# Altium integrated library TI_Logic_Little_Logic.IntLib: 1164 symbols (part 31 of 35)
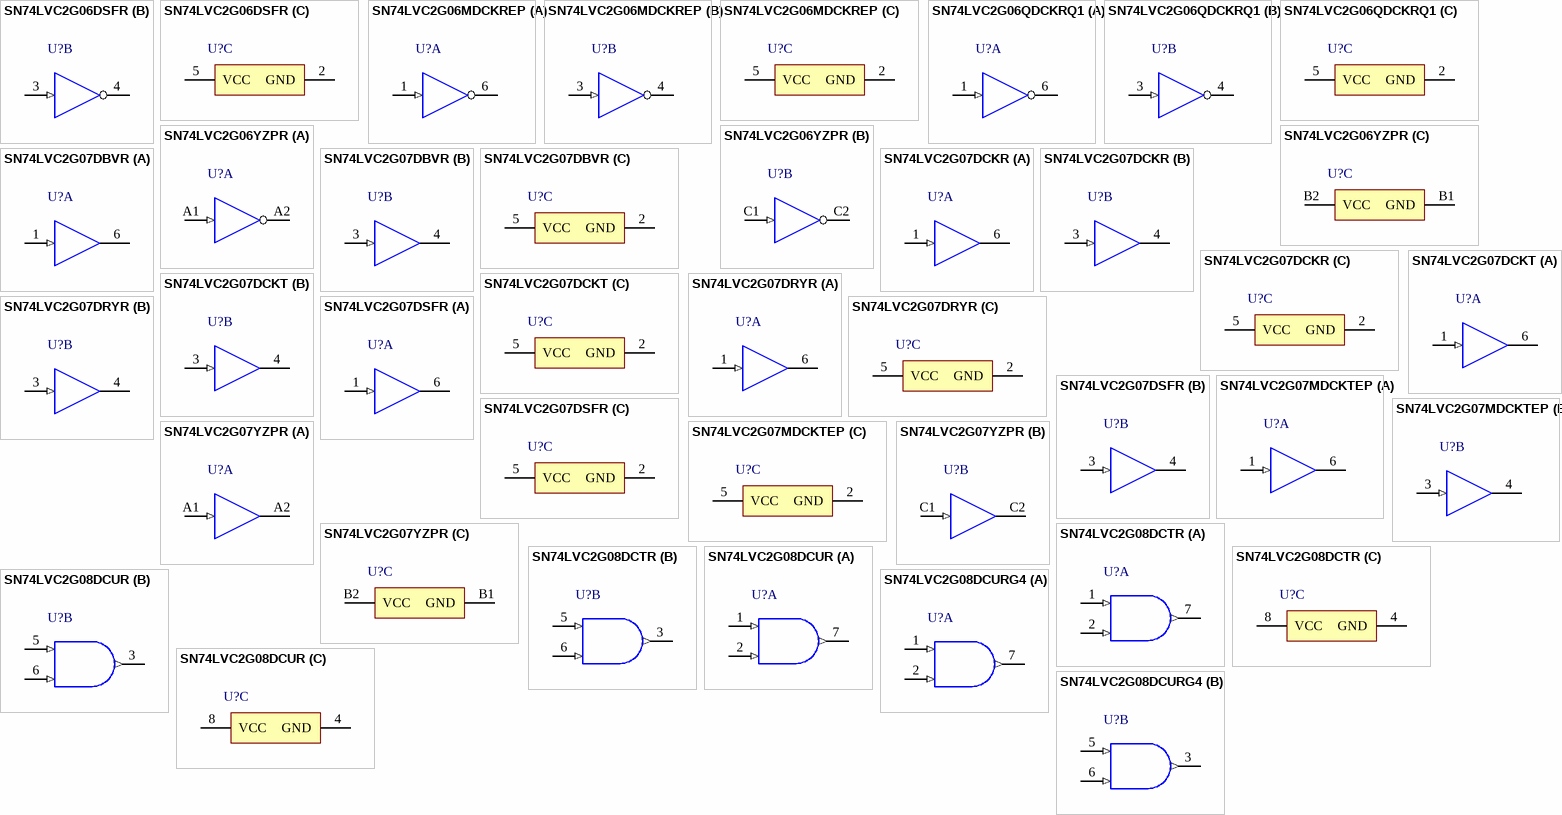
[diagram p90: symbols SN74LVC2G06DSFR to SN74LVC2G08DCURG4]

## SN74LVC2G07DCKR
designator U?
Dual Buffer/Driver with Open-Drain Output, DCK0006A, LARGE T&R; Generic Part Number: SN74LVC2G07; Manufacturer: Texas Instruments; PartNumber: SN74LVC2G07DCKR; VCC(Min)(V): 1.65; VCC(Max)(V): 5.5; Output Type: CMOS; ICC @ Nom Voltage(Max)(mA): 0.01; Input Type: CMOS/TTL; Bits(#): 2; F @ Nom Voltage(Max)(Mhz): 150; Rating: Catalog; Technology Family: LVC; Voltage(Nom)(V): 1.8,2.5,3.3,5; Schmitt Trigger: No; Output Drive (IOL/IOH)(Max)(mA): 32/-32; tpd @ Nom Voltage(Max)(ns): 8.6,4.4,3.7,2.9; Logic: True; Sub-Family: Inverting Buffer/Driver; DatasheetVersion: SCES308K; PackageReference: DCK0006A; Supplier 1: Mouser; Supplier Part Number 1: 595-SN74LVC2G07DCKR; Supplier 2: Digi-Key; Supplier Part Number 2: 296-13495-2-ND; Supplier 3: Digi-Key; Supplier Part Number 3: 296-13495-1-ND; Supplier 4: Digi-Key; Supplier Part Number 4: 296-13495-6-ND; Operating Temperature Range(C): -40 to 125; 3-State Output: No; ComponentLink1Description: Manufacturer URL; ComponentLink1URL: http://www.ti.com/; ComponentLink2Description: Datasheet; ComponentLink2URL: http://www.ti.com/lit/ds/symlink/sn74lvc2g07.pdf
footprint DCK0006A_N (SOT23, 6-Leads, Body 2.15x1.4mm, Pitch 0.65mm, IPC Medium Density)
footprint DCK0006A_M (SOT23, 6-Leads, Body 2.15x1.4mm, Pitch 0.65mm, IPC Low Density)
footprint DCK0006A_L (SOT23, 6-Leads, Body 2.15x1.4mm, Pitch 0.65mm, IPC High Density)
part A pins: 1 1A (in) "Input 1", 6 1Y (oc) "Open-drain output 1"
part B pins: 3 2A (in) "Input 2", 4 2Y (oc) "Open-drain output 2"
part C pins: 2 GND (power) "Ground", 5 VCC (power) "Power pin"

## SN74LVC2G07DCKT
designator U?
Dual Buffer/Driver with Open-Drain Output, DCK0006A, SMALL T&R; Generic Part Number: SN74LVC2G07; Manufacturer: Texas Instruments; PartNumber: SN74LVC2G07DCKT; VCC(Min)(V): 1.65; VCC(Max)(V): 5.5; Output Type: CMOS; ICC @ Nom Voltage(Max)(mA): 0.01; Input Type: CMOS/TTL; Bits(#): 2; F @ Nom Voltage(Max)(Mhz): 150; Rating: Catalog; Technology Family: LVC; Voltage(Nom)(V): 1.8,2.5,3.3,5; Schmitt Trigger: No; Output Drive (IOL/IOH)(Max)(mA): 32/-32; tpd @ Nom Voltage(Max)(ns): 8.6,4.4,3.7,2.9; Logic: True; Sub-Family: Inverting Buffer/Driver; DatasheetVersion: SCES308K; PackageReference: DCK0006A; Supplier 1: Mouser; Supplier Part Number 1: 595-SN74LVC2G07DCKT; Supplier 2: Digi-Key; Supplier Part Number 2: 296-26614-2-ND; Supplier 3: Digi-Key; Supplier Part Number 3: 296-26614-1-ND; Supplier 4: Digi-Key; Supplier Part Number 4: 296-26614-6-ND; Operating Temperature Range(C): -40 to 125; 3-State Output: No; ComponentLink1Description: Manufacturer URL; ComponentLink1URL: http://www.ti.com/; ComponentLink2Description: Datasheet; ComponentLink2URL: http://www.ti.com/lit/ds/symlink/sn74lvc2g07.pdf
footprint DCK0006A_N (SOT23, 6-Leads, Body 2.15x1.4mm, Pitch 0.65mm, IPC Medium Density)
footprint DCK0006A_M (SOT23, 6-Leads, Body 2.15x1.4mm, Pitch 0.65mm, IPC Low Density)
footprint DCK0006A_L (SOT23, 6-Leads, Body 2.15x1.4mm, Pitch 0.65mm, IPC High Density)
part A pins: 1 1A (in) "Input 1", 6 1Y (oc) "Open-drain output 1"
part B pins: 3 2A (in) "Input 2", 4 2Y (oc) "Open-drain output 2"
part C pins: 2 GND (power) "Ground", 5 VCC (power) "Power pin"

## SN74LVC2G07DRYR
designator U?
Dual Buffer/Driver with Open-Drain Output, DRY0006A, LARGE T&R; Generic Part Number: SN74LVC2G07; Manufacturer: Texas Instruments; PartNumber: SN74LVC2G07DRYR; VCC(Min)(V): 1.65; VCC(Max)(V): 5.5; Output Type: CMOS; ICC @ Nom Voltage(Max)(mA): 0.01; Input Type: CMOS/TTL; Bits(#): 2; F @ Nom Voltage(Max)(Mhz): 150; Rating: Catalog; Technology Family: LVC; Voltage(Nom)(V): 1.8,2.5,3.3,5; Schmitt Trigger: No; Output Drive (IOL/IOH)(Max)(mA): 32/-32; tpd @ Nom Voltage(Max)(ns): 8.6,4.4,3.7,2.9; Logic: True; Sub-Family: Inverting Buffer/Driver; DatasheetVersion: SCES308K; PackageReference: DRY0006A; Supplier 1: Mouser; Supplier Part Number 1: 595-SN74LVC2G07DRYR; Supplier 2: Digi-Key; Supplier Part Number 2: 296-30604-2-ND; Supplier 3: Digi-Key; Supplier Part Number 3: 296-30604-1-ND; Supplier 4: Digi-Key; Supplier Part Number 4: 296-30604-6-ND; Operating Temperature Range(C): -40 to 125; 3-State Output: No; ComponentLink1Description: Manufacturer URL; ComponentLink1URL: http://www.ti.com/; ComponentLink2Description: Datasheet; ComponentLink2URL: http://www.ti.com/lit/ds/symlink/sn74lvc2g07.pdf
footprint DRY0006A_V (SON, 6-Leads, Body 1.45x1mm, Pitch 0.5mm)
part A pins: 1 1A (in) "Input 1", 6 1Y (oc) "Open-drain output 1"
part B pins: 3 2A (in) "Input 2", 4 2Y (oc) "Open-drain output 2"
part C pins: 2 GND (power) "Ground", 5 VCC (power) "Power pin"

## SN74LVC2G07DSFR
designator U?
Dual Buffer/Driver with Open-Drain Output, DSF0006A, LARGE T&R; Generic Part Number: SN74LVC2G07; Manufacturer: Texas Instruments; PartNumber: SN74LVC2G07DSFR; VCC(Min)(V): 1.65; VCC(Max)(V): 5.5; Output Type: CMOS; ICC @ Nom Voltage(Max)(mA): 0.01; Input Type: CMOS/TTL; Bits(#): 2; F @ Nom Voltage(Max)(Mhz): 150; Rating: Catalog; Technology Family: LVC; Voltage(Nom)(V): 1.8,2.5,3.3,5; Schmitt Trigger: No; Output Drive (IOL/IOH)(Max)(mA): 32/-32; tpd @ Nom Voltage(Max)(ns): 8.6,4.4,3.7,2.9; Logic: True; Sub-Family: Inverting Buffer/Driver; DatasheetVersion: SCES308K; PackageReference: DSF0006A; Supplier 1: Mouser; Supplier Part Number 1: 595-SN74LVC2G07DSFR; Supplier 2: Digi-Key; Supplier Part Number 2: 296-30605-2-ND; Supplier 3: Digi-Key; Supplier Part Number 3: 296-30605-1-ND; Supplier 4: Digi-Key; Supplier Part Number 4: 296-30605-6-ND; Operating Temperature Range(C): -40 to 125; 3-State Output: No; ComponentLink1Description: Manufacturer URL; ComponentLink1URL: http://www.ti.com/; ComponentLink2Description: Datasheet; ComponentLink2URL: http://www.ti.com/lit/ds/symlink/sn74lvc2g07.pdf
footprint DSF0006A_V (SON, 6-Leads, Body 1x1mm, Pitch 0.35mm, TI Recommend)
part A pins: 1 1A (in) "Input 1", 6 1Y (oc) "Open-drain output 1"
part B pins: 3 2A (in) "Input 2", 4 2Y (oc) "Open-drain output 2"
part C pins: 2 GND (power) "Ground", 5 VCC (power) "Power pin"

## SN74LVC2G07MDCKTEP
designator U?
Enhanced Product Dual Buffer/Driver with Open-Drain Output, DCK0006A, SMALL T&R; Generic Part Number: SN74LVC2G07-EP; Manufacturer: Texas Instruments; PartNumber: SN74LVC2G07MDCKTEP; VCC(Min)(V): 1.65; VCC(Max)(V): 5.5; Output Type: CMOS; ICC @ Nom Voltage(Max)(mA): 0.01; Input Type: CMOS/TTL; Bits(#): 2; F @ Nom Voltage(Max)(Mhz): 150; Rating: HiRel Enhanced Product; Technology Family: LVC; Voltage(Nom)(V): 1.8,2.5,3.3,5; Schmitt Trigger: No; Output Drive (IOL/IOH)(Max)(mA): 32/-32; tpd @ Nom Voltage(Max)(ns): 5.7,4.9; Logic: True; Sub-Family: Inverting Buffer/Driver; DatasheetVersion: SCES719; PackageReference: DCK0006A; Supplier 1: Mouser; Supplier Part Number 1: 595-74LVC2G07MDCKTEP; Supplier 2: Digi-Key; Supplier Part Number 2: 296-23739-2-ND; Supplier 3: Digi-Key; Supplier Part Number 3: 296-23739-1-ND; Supplier 4: Digi-Key; Supplier Part Number 4: 296-23739-6-ND; Operating Temperature Range(C): -55 to 125; 3-State Output: No; ComponentLink1Description: Manufacturer URL; ComponentLink1URL: http://www.ti.com/; ComponentLink2Description: Datasheet; ComponentLink2URL: http://www.ti.com/lit/ds/symlink/sn74lvc2g07-ep.pdf
footprint DCK0006A_N (SOT23, 6-Leads, Body 2.15x1.4mm, Pitch 0.65mm, IPC Medium Density)
footprint DCK0006A_M (SOT23, 6-Leads, Body 2.15x1.4mm, Pitch 0.65mm, IPC Low Density)
footprint DCK0006A_L (SOT23, 6-Leads, Body 2.15x1.4mm, Pitch 0.65mm, IPC High Density)
part A pins: 1 1A (in) "Input 1", 6 1Y (oc) "Open-drain output 1"
part B pins: 3 2A (in) "Input 2", 4 2Y (oc) "Open-drain output 2"
part C pins: 2 GND (power) "Ground", 5 VCC (power) "Power pin"

## SN74LVC2G07YZPR
designator U?
Dual Buffer/Driver with Open-Drain Output, YZP0006ADAD, LARGE T&R; Generic Part Number: SN74LVC2G07; Manufacturer: Texas Instruments; PartNumber: SN74LVC2G07YZPR; VCC(Min)(V): 1.65; VCC(Max)(V): 5.5; Output Type: CMOS; ICC @ Nom Voltage(Max)(mA): 0.01; Input Type: CMOS/TTL; Bits(#): 2; F @ Nom Voltage(Max)(Mhz): 150; Rating: Catalog; Technology Family: LVC; Voltage(Nom)(V): 1.8,2.5,3.3,5; Schmitt Trigger: No; Output Drive (IOL/IOH)(Max)(mA): 32/-32; tpd @ Nom Voltage(Max)(ns): 8.6,4.4,3.7,2.9; Logic: True; Sub-Family: Inverting Buffer/Driver; DatasheetVersion: SCES308K; PackageReference: YZP0006ADAD; Supplier 1: Mouser; Supplier Part Number 1: 595-SN74LVC2G07YZPR; Supplier 2: Digi-Key; Supplier Part Number 2: 296-23277-2-ND; Supplier 3: Digi-Key; Supplier Part Number 3: 296-23277-1-ND; Supplier 4: Digi-Key; Supplier Part Number 4: 296-23277-6-ND; Operating Temperature Range(C): -40 to 125; 3-State Output: No; ComponentLink1Description: Manufacturer URL; ComponentLink1URL: http://www.ti.com/; ComponentLink2Description: Datasheet; ComponentLink2URL: http://www.ti.com/lit/ds/symlink/sn74lvc2g07.pdf
footprint YZP0006ADAD (BGA, 6-Balls, Body 1.39x0.89mm, Pitch 0.5mm)
part A pins: A1 1A (in), A2 1Y (oc)
part B pins: C1 2A (in), C2 2Y (oc)
part C pins: B1 GND (power), B2 VCC (power)

## SN74LVC2G08DCTR
designator U?
Dual 2-Input Positive-AND Gate, DCT0008A, LARGE T&R; Generic Part Number: SN74LVC2G08; Manufacturer: Texas Instruments; PartNumber: SN74LVC2G08DCTR; VCC(Min)(V): 1.65; VCC(Max)(V): 5.5; Output Type: CMOS; ICC @ Nom Voltage(Max)(mA): 0.01; Input Type: CMOS/TTL; Bits(#): 2; F @ Nom Voltage(Max)(Mhz): 150; Rating: Catalog; Technology Family: LVC; Voltage(Nom)(V): 1.8,2.5,3.3,5; Schmitt Trigger: No; Output Drive (IOL/IOH)(Max)(mA): 32/-32; tpd @ Nom Voltage(Max)(ns): 9.8,5.8,5.3,4.8; Logic: True; Gate Type: AND; DatasheetVersion: SCES198M; PackageReference: DCT0008A; Supplier 1: Mouser; Supplier Part Number 1: 595-SN74LVC2G08DCTR; Supplier 2: Digi-Key; Supplier Part Number 2: 296-13263-2-ND; Supplier 3: Digi-Key; Supplier Part Number 3: 296-13263-1-ND; Supplier 4: Digi-Key; Supplier Part Number 4: 296-13263-6-ND; Operating Temperature Range(C): -40 to 125,-40 to 85; Sub-Family: AND Gate; 3-State Output: No; ComponentLink1Description: Manufacturer URL; ComponentLink1URL: http://www.ti.com/; ComponentLink2Description: Datasheet; ComponentLink2URL: http://www.ti.com/lit/ds/symlink/sn74lvc2g08.pdf
footprint DCT0008A_N (SOP, 8-Leads, Body 2.9x3.2mm, Pitch 0.65mm, IPC Medium Density)
footprint DCT0008A_M (SOP, 8-Leads, Body 2.9x3.2mm, Pitch 0.65mm, IPC Low Density)
footprint DCT0008A_L (SOP, 8-Leads, Body 2.9x3.2mm, Pitch 0.65mm, IPC High Density)
part A pins: 1 1A (in), 2 1B (in), 7 1Y (out)
part B pins: 3 2Y (out), 5 2A (in), 6 2B (in)
part C pins: 4 GND (power), 8 VCC (power)

## SN74LVC2G08DCUR
designator U?
Dual 2-Input Positive-AND Gate, DCU0008A, LARGE T&R; Generic Part Number: SN74LVC2G08; Manufacturer: Texas Instruments; PartNumber: SN74LVC2G08DCUR; VCC(Min)(V): 1.65; VCC(Max)(V): 5.5; Output Type: CMOS; ICC @ Nom Voltage(Max)(mA): 0.01; Input Type: CMOS/TTL; Bits(#): 2; F @ Nom Voltage(Max)(Mhz): 150; Rating: Catalog; Technology Family: LVC; Voltage(Nom)(V): 1.8,2.5,3.3,5; Schmitt Trigger: No; Output Drive (IOL/IOH)(Max)(mA): 32/-32; tpd @ Nom Voltage(Max)(ns): 9.8,5.8,5.3,4.8; Logic: True; Gate Type: AND; DatasheetVersion: SCES198M; PackageReference: DCU0008A; Supplier 1: Mouser; Supplier Part Number 1: 595-SN74LVC2G08DCUR; Supplier 2: Digi-Key; Supplier Part Number 2: 296-13264-2-ND; Supplier 3: Digi-Key; Supplier Part Number 3: 296-13264-1-ND; Supplier 4: Digi-Key; Supplier Part Number 4: 296-13264-6-ND; Operating Temperature Range(C): -40 to 125,-40 to 85; Sub-Family: AND Gate; 3-State Output: No; ComponentLink1Description: Manufacturer URL; ComponentLink1URL: http://www.ti.com/; ComponentLink2Description: Datasheet; ComponentLink2URL: http://www.ti.com/lit/ds/symlink/sn74lvc2g08.pdf
footprint DCU0008A_N (SOP, 8-Leads, Body 2.4x2.1mm, Pitch 0.5mm, IPC Medium Density)
footprint DCU0008A_M (SOP, 8-Leads, Body 2.4x2.1mm, Pitch 0.5mm, IPC Low Density)
footprint DCU0008A_L (SOP, 8-Leads, Body 2.4x2.1mm, Pitch 0.5mm, IPC High Density)
part A pins: 1 1A (in), 2 1B (in), 7 1Y (out)
part B pins: 3 2Y (out), 5 2A (in), 6 2B (in)
part C pins: 4 GND (power), 8 VCC (power)

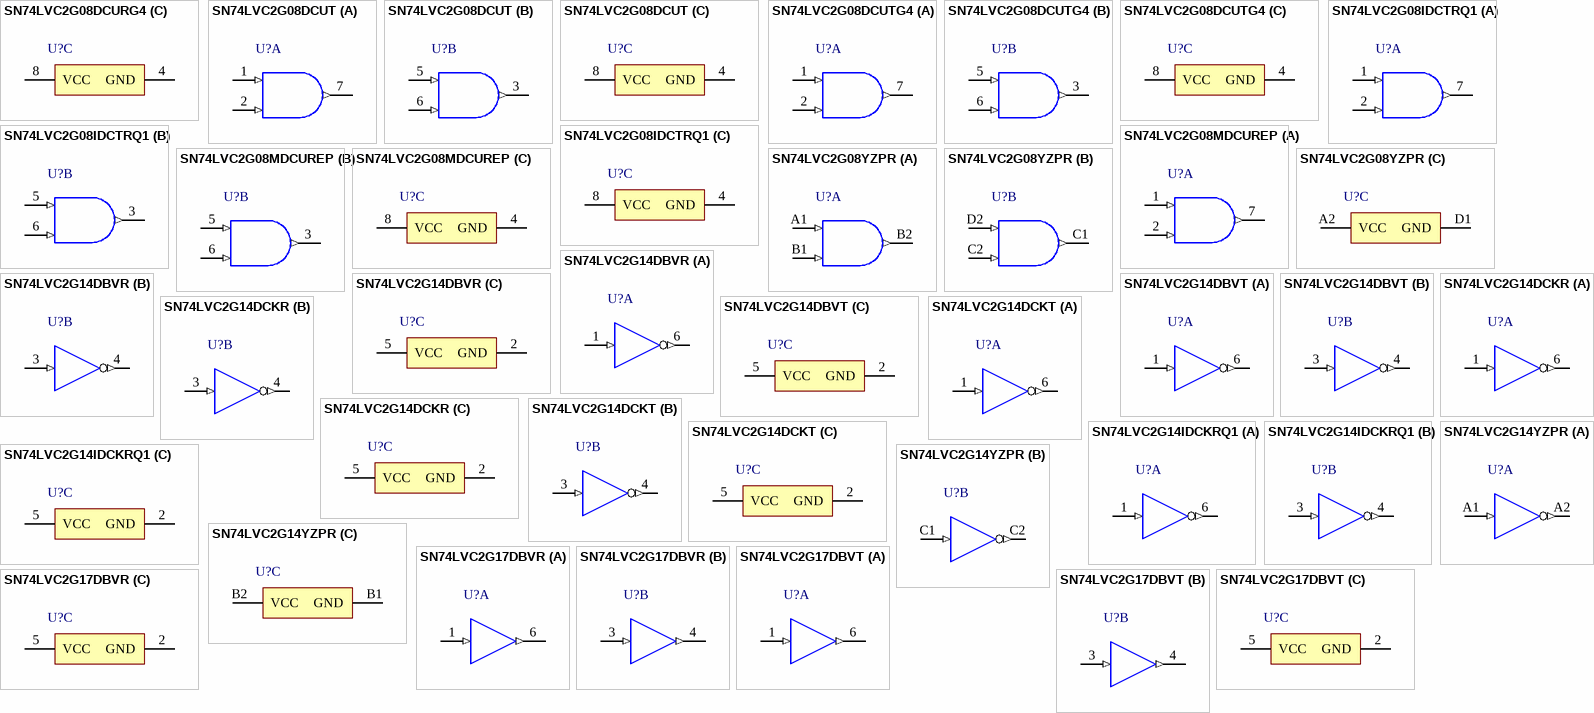
[diagram p50: symbols SN74LVC2G08DCURG4 to SN74LVC2G17DBVT]

## SN74LVC2G08DCURG4
designator U?
Dual 2-Input Positive-AND Gate, DCU0008A, LARGE T&R; Generic Part Number: SN74LVC2G08; Manufacturer: Texas Instruments; PartNumber: SN74LVC2G08DCURG4; VCC(Min)(V): 1.65; VCC(Max)(V): 5.5; Output Type: CMOS; ICC @ Nom Voltage(Max)(mA): 0.01; Input Type: CMOS/TTL; Bits(#): 2; F @ Nom Voltage(Max)(Mhz): 150; Rating: Catalog; Technology Family: LVC; Voltage(Nom)(V): 1.8,2.5,3.3,5; Schmitt Trigger: No; Output Drive (IOL/IOH)(Max)(mA): 32/-32; tpd @ Nom Voltage(Max)(ns): 9.8,5.8,5.3,4.8; Logic: True; Gate Type: AND; DatasheetVersion: SCES198M; PackageReference: DCU0008A; Supplier 1: Mouser; Supplier Part Number 1: 595-SN74LVC2G08DCUG4; Supplier 2: Digi-Key; Supplier Part Number 2: 296-32320-2-ND; Supplier 3: Digi-Key; Supplier Part Number 3: 296-32320-1-ND; Supplier 4: Digi-Key; Supplier Part Number 4: 296-32320-6-ND; Operating Temperature Range(C): -40 to 125,-40 to 85; Sub-Family: AND Gate; 3-State Output: No; ComponentLink1Description: Manufacturer URL; ComponentLink1URL: http://www.ti.com/; ComponentLink2Description: Datasheet; ComponentLink2URL: http://www.ti.com/lit/ds/symlink/sn74lvc2g08.pdf
footprint DCU0008A_N (SOP, 8-Leads, Body 2.4x2.1mm, Pitch 0.5mm, IPC Medium Density)
footprint DCU0008A_M (SOP, 8-Leads, Body 2.4x2.1mm, Pitch 0.5mm, IPC Low Density)
footprint DCU0008A_L (SOP, 8-Leads, Body 2.4x2.1mm, Pitch 0.5mm, IPC High Density)
part A pins: 1 1A (in), 2 1B (in), 7 1Y (out)
part B pins: 3 2Y (out), 5 2A (in), 6 2B (in)
part C pins: 4 GND (power), 8 VCC (power)

## SN74LVC2G08DCUT
designator U?
Dual 2-Input Positive-AND Gate, DCU0008A, SMALL T&R; Generic Part Number: SN74LVC2G08; Manufacturer: Texas Instruments; PartNumber: SN74LVC2G08DCUT; VCC(Min)(V): 1.65; VCC(Max)(V): 5.5; Output Type: CMOS; ICC @ Nom Voltage(Max)(mA): 0.01; Input Type: CMOS/TTL; Bits(#): 2; F @ Nom Voltage(Max)(Mhz): 150; Rating: Catalog; Technology Family: LVC; Voltage(Nom)(V): 1.8,2.5,3.3,5; Schmitt Trigger: No; Output Drive (IOL/IOH)(Max)(mA): 32/-32; tpd @ Nom Voltage(Max)(ns): 9.8,5.8,5.3,4.8; Logic: True; Gate Type: AND; DatasheetVersion: SCES198M; PackageReference: DCU0008A; Supplier 1: Mouser; Supplier Part Number 1: 595-SN74LVC2G08DCUT; Supplier 2: Digi-Key; Supplier Part Number 2: 296-26615-2-ND; Supplier 3: Digi-Key; Supplier Part Number 3: 296-26615-1-ND; Supplier 4: Digi-Key; Supplier Part Number 4: 296-26615-6-ND; Operating Temperature Range(C): -40 to 125,-40 to 85; Sub-Family: AND Gate; 3-State Output: No; ComponentLink1Description: Manufacturer URL; ComponentLink1URL: http://www.ti.com/; ComponentLink2Description: Datasheet; ComponentLink2URL: http://www.ti.com/lit/ds/symlink/sn74lvc2g08.pdf
footprint DCU0008A_N (SOP, 8-Leads, Body 2.4x2.1mm, Pitch 0.5mm, IPC Medium Density)
footprint DCU0008A_M (SOP, 8-Leads, Body 2.4x2.1mm, Pitch 0.5mm, IPC Low Density)
footprint DCU0008A_L (SOP, 8-Leads, Body 2.4x2.1mm, Pitch 0.5mm, IPC High Density)
part A pins: 1 1A (in), 2 1B (in), 7 1Y (out)
part B pins: 3 2Y (out), 5 2A (in), 6 2B (in)
part C pins: 4 GND (power), 8 VCC (power)

## SN74LVC2G08DCUTG4
designator U?
Dual 2-Input Positive-AND Gate, DCU0008A, SMALL T&R; Generic Part Number: SN74LVC2G08; Manufacturer: Texas Instruments; PartNumber: SN74LVC2G08DCUTG4; VCC(Min)(V): 1.65; VCC(Max)(V): 5.5; Output Type: CMOS; ICC @ Nom Voltage(Max)(mA): 0.01; Input Type: CMOS/TTL; Bits(#): 2; F @ Nom Voltage(Max)(Mhz): 150; Rating: Catalog; Technology Family: LVC; Voltage(Nom)(V): 1.8,2.5,3.3,5; Schmitt Trigger: No; Output Drive (IOL/IOH)(Max)(mA): 32/-32; tpd @ Nom Voltage(Max)(ns): 9.8,5.8,5.3,4.8; Logic: True; Gate Type: AND; DatasheetVersion: SCES198M; PackageReference: DCU0008A; Supplier 1: Mouser; Supplier Part Number 1: 595-74LVC2G08DCUTG4; Supplier 2: Digi-Key; Supplier Part Number 2: SN74LVC2G08DCUTG4-ND; Operating Temperature Range(C): -40 to 125,-40 to 85; Sub-Family: AND Gate; 3-State Output: No; ComponentLink1Description: Manufacturer URL; ComponentLink1URL: http://www.ti.com/; ComponentLink2Description: Datasheet; ComponentLink2URL: http://www.ti.com/lit/ds/symlink/sn74lvc2g08.pdf
footprint DCU0008A_N (SOP, 8-Leads, Body 2.4x2.1mm, Pitch 0.5mm, IPC Medium Density)
footprint DCU0008A_M (SOP, 8-Leads, Body 2.4x2.1mm, Pitch 0.5mm, IPC Low Density)
footprint DCU0008A_L (SOP, 8-Leads, Body 2.4x2.1mm, Pitch 0.5mm, IPC High Density)
part A pins: 1 1A (in), 2 1B (in), 7 1Y (out)
part B pins: 3 2Y (out), 5 2A (in), 6 2B (in)
part C pins: 4 GND (power), 8 VCC (power)

## SN74LVC2G08IDCTRQ1
designator U?
Automotive Catalog Dual 2-Input Positive-AND Gate, DCT0008A, LARGE T&R; Generic Part Number: SN74LVC2G08-Q1; Manufacturer: Texas Instruments; PartNumber: SN74LVC2G08IDCTRQ1; VCC(Min)(V): 1.65; VCC(Max)(V): 5.5; Output Type: CMOS; ICC @ Nom Voltage(Max)(mA): 0.01; Input Type: CMOS/TTL; Bits(#): 2; F @ Nom Voltage(Max)(Mhz): 150; Technology Family: LVC; Voltage(Nom)(V): 1.8,2.5,3.3,5; Schmitt Trigger: No; Output Drive (IOL/IOH)(Max)(mA): 32/-32; tpd @ Nom Voltage(Max)(ns): 9,5.1,4.7,3.8; Logic: True; DatasheetVersion: SCES557D; PackageReference: DCT0008A; Supplier 1: Mouser; Supplier Part Number 1: 595-SN74LVC2G08IDCQ1; Supplier 2: Digi-Key; Supplier Part Number 2: 296-36980-2-ND; Supplier 3: Digi-Key; Supplier Part Number 3: 296-36980-1-ND; Supplier 4: Digi-Key; Supplier Part Number 4: 296-36980-6-ND; Operating Temperature Range(C): -40 to 85; Rating: Automotive; Sub-Family: AND Gate; 3-State Output: No; ComponentLink1Description: Manufacturer URL; ComponentLink1URL: http://www.ti.com/; ComponentLink2Description: Datasheet; ComponentLink2URL: http://www.ti.com/lit/ds/symlink/sn74lvc2g08-q1.pdf
footprint DCT0008A_N (SOP, 8-Leads, Body 2.9x3.2mm, Pitch 0.65mm, IPC Medium Density)
footprint DCT0008A_M (SOP, 8-Leads, Body 2.9x3.2mm, Pitch 0.65mm, IPC Low Density)
footprint DCT0008A_L (SOP, 8-Leads, Body 2.9x3.2mm, Pitch 0.65mm, IPC High Density)
part A pins: 1 1A (in), 2 1B (in), 7 1Y (out)
part B pins: 3 2Y (out), 5 2A (in), 6 2B (in)
part C pins: 4 GND (power), 8 VCC (power)

## SN74LVC2G08MDCUREP
designator U?
Enhanced Product Dual 2-Input Positive-And Gate, DCU0008A, LARGE T&R; Generic Part Number: SN74LVC2G08-EP; Manufacturer: Texas Instruments; PartNumber: SN74LVC2G08MDCUREP; VCC(Min)(V): 1.65; VCC(Max)(V): 5.5; Output Type: CMOS; ICC @ Nom Voltage(Max)(mA): 0.01; Input Type: CMOS/TTL; Bits(#): 2; F @ Nom Voltage(Max)(Mhz): 150; Rating: HiRel Enhanced Product; Technology Family: LVC; Voltage(Nom)(V): 1.8,2.5,3.3,5; Schmitt Trigger: No; Output Drive (IOL/IOH)(Max)(mA): 32/-32; tpd @ Nom Voltage(Max)(ns): 5.7,4.8; Logic: True; DatasheetVersion: SGDS032; PackageReference: DCU0008A; Supplier 1: Mouser; Supplier Part Number 1: 595-74LVC2G08MDCUREP; Supplier 2: Digi-Key; Supplier Part Number 2: 296-23472-2-ND; Supplier 3: Digi-Key; Supplier Part Number 3: 296-23472-1-ND; Supplier 4: Digi-Key; Supplier Part Number 4: 296-23472-6-ND; Operating Temperature Range(C): -55 to 125; Sub-Family: AND Gate; 3-State Output: No; ComponentLink1Description: Manufacturer URL; ComponentLink1URL: http://www.ti.com/; ComponentLink2Description: Datasheet; ComponentLink2URL: http://www.ti.com/lit/ds/symlink/sn74lvc2g08-ep.pdf
footprint DCU0008A_N (SOP, 8-Leads, Body 2.4x2.1mm, Pitch 0.5mm, IPC Medium Density)
footprint DCU0008A_M (SOP, 8-Leads, Body 2.4x2.1mm, Pitch 0.5mm, IPC Low Density)
footprint DCU0008A_L (SOP, 8-Leads, Body 2.4x2.1mm, Pitch 0.5mm, IPC High Density)
part A pins: 1 1A (in), 2 1B (in), 7 1Y (out)
part B pins: 3 2Y (out), 5 2A (in), 6 2B (in)
part C pins: 4 GND (power), 8 VCC (power)

## SN74LVC2G08YZPR
designator U?
Dual 2-Input Positive-AND Gate, YZP0008ADAD, LARGE T&R; Generic Part Number: SN74LVC2G08; Manufacturer: Texas Instruments; PartNumber: SN74LVC2G08YZPR; VCC(Min)(V): 1.65; VCC(Max)(V): 5.5; Output Type: CMOS; ICC @ Nom Voltage(Max)(mA): 0.01; Input Type: CMOS/TTL; Bits(#): 2; F @ Nom Voltage(Max)(Mhz): 150; Rating: Catalog; Technology Family: LVC; Voltage(Nom)(V): 1.8,2.5,3.3,5; Schmitt Trigger: No; Output Drive (IOL/IOH)(Max)(mA): 32/-32; tpd @ Nom Voltage(Max)(ns): 9.8,5.8,5.3,4.8; Logic: True; Gate Type: AND; DatasheetVersion: SCES198M; PackageReference: YZP0008ADAD; Supplier 1: Mouser; Supplier Part Number 1: 595-SN74LVC2G08YZPR; Supplier 2: Digi-Key; Supplier Part Number 2: 296-14371-2-ND; Supplier 3: Digi-Key; Supplier Part Number 3: 296-14371-1-ND; Supplier 4: Digi-Key; Supplier Part Number 4: 296-14371-6-ND; Operating Temperature Range(C): -40 to 125,-40 to 85; Sub-Family: AND Gate; 3-State Output: No; ComponentLink1Description: Manufacturer URL; ComponentLink1URL: http://www.ti.com/; ComponentLink2Description: Datasheet; ComponentLink2URL: http://www.ti.com/lit/ds/symlink/sn74lvc2g08.pdf
footprint YZP0008ADAD (BGA, 8-Balls, Body 1.89x0.89mm, Pitch 0.5mm)
part A pins: A1 1A (in), B1 1B (in), B2 1Y (out)
part B pins: C1 2Y (out), C2 2B (in), D2 2A (in)
part C pins: A2 VCC (power), D1 GND (power)

## SN74LVC2G14DBVR
designator U?
Dual Schmitt-Trigger Inverter, DBV0006A, LARGE T&R; Generic Part Number: SN74LVC2G14; Manufacturer: Texas Instruments; PartNumber: SN74LVC2G14DBVR; VCC(Min)(V): 1.65; VCC(Max)(V): 5.5; Output Type: CMOS; ICC @ Nom Voltage(Max)(mA): 0.01; Input Type: CMOS/TTL; Bits(#): 2; F @ Nom Voltage(Max)(Mhz): 150; Rating: Catalog; Technology Family: LVC; Voltage(Nom)(V): 1.8,2.5,3.3,5; Schmitt Trigger: Yes; Output Drive (IOL/IOH)(Max)(mA): 32/-32; tpd @ Nom Voltage(Max)(ns): 9.5,5.7,5.4,4.3; Logic: Inverting; Sub-Family: Inverting Buffer/Driver; 3-State Output: No; DatasheetVersion: SCES200M; PackageReference: DBV0006A; Supplier 1: Mouser; Supplier Part Number 1: 595-SN74LVC2G14DBVR; Supplier 2: Digi-Key; Supplier Part Number 2: 296-13010-2-ND; Supplier 3: Digi-Key; Supplier Part Number 3: 296-13010-1-ND; Supplier 4: Digi-Key; Supplier Part Number 4: 296-13010-6-ND; Operating Temperature Range(C): -40 to 125; ComponentLink1Description: Manufacturer URL; ComponentLink1URL: http://www.ti.com/; ComponentLink2Description: Datasheet; ComponentLink2URL: http://www.ti.com/lit/ds/symlink/sn74lvc2g14.pdf
footprint DBV0006A_N (SOT23, 6-Leads, Body 3.05x1.75mm, Pitch 0.95mm, IPC Medium Density)
footprint DBV0006A_M (SOT23, 6-Leads, Body 3.05x1.75mm, Pitch 0.95mm, IPC Low Density)
footprint DBV0006A_L (SOT23, 6-Leads, Body 3.05x1.75mm, Pitch 0.95mm, IPC High Density)
part A pins: 1 1A (in), 6 1Y (out)
part B pins: 3 2A (in), 4 2Y (out)
part C pins: 2 GND (power), 5 VCC (power)

## SN74LVC2G14DBVT
designator U?
Dual Schmitt-Trigger Inverter, DBV0006A, SMALL T&R; Generic Part Number: SN74LVC2G14; Manufacturer: Texas Instruments; PartNumber: SN74LVC2G14DBVT; VCC(Min)(V): 1.65; VCC(Max)(V): 5.5; Output Type: CMOS; ICC @ Nom Voltage(Max)(mA): 0.01; Input Type: CMOS/TTL; Bits(#): 2; F @ Nom Voltage(Max)(Mhz): 150; Rating: Catalog; Technology Family: LVC; Voltage(Nom)(V): 1.8,2.5,3.3,5; Schmitt Trigger: Yes; Output Drive (IOL/IOH)(Max)(mA): 32/-32; tpd @ Nom Voltage(Max)(ns): 9.5,5.7,5.4,4.3; Logic: Inverting; Sub-Family: Inverting Buffer/Driver; 3-State Output: No; DatasheetVersion: SCES200M; PackageReference: DBV0006A; Supplier 1: Mouser; Supplier Part Number 1: 595-SN74LVC2G14DBVT; Supplier 2: Digi-Key; Supplier Part Number 2: 296-26618-2-ND; Supplier 3: Digi-Key; Supplier Part Number 3: 296-26618-1-ND; Supplier 4: Digi-Key; Supplier Part Number 4: 296-26618-6-ND; Operating Temperature Range(C): -40 to 125; ComponentLink1Description: Manufacturer URL; ComponentLink1URL: http://www.ti.com/; ComponentLink2Description: Datasheet; ComponentLink2URL: http://www.ti.com/lit/ds/symlink/sn74lvc2g14.pdf
footprint DBV0006A_N (SOT23, 6-Leads, Body 3.05x1.75mm, Pitch 0.95mm, IPC Medium Density)
footprint DBV0006A_M (SOT23, 6-Leads, Body 3.05x1.75mm, Pitch 0.95mm, IPC Low Density)
footprint DBV0006A_L (SOT23, 6-Leads, Body 3.05x1.75mm, Pitch 0.95mm, IPC High Density)
part A pins: 1 1A (in), 6 1Y (out)
part B pins: 3 2A (in), 4 2Y (out)
part C pins: 2 GND (power), 5 VCC (power)

## SN74LVC2G14DCKR
designator U?
Dual Schmitt-Trigger Inverter, DCK0006A, LARGE T&R; Generic Part Number: SN74LVC2G14; Manufacturer: Texas Instruments; PartNumber: SN74LVC2G14DCKR; VCC(Min)(V): 1.65; VCC(Max)(V): 5.5; Output Type: CMOS; ICC @ Nom Voltage(Max)(mA): 0.01; Input Type: CMOS/TTL; Bits(#): 2; F @ Nom Voltage(Max)(Mhz): 150; Rating: Catalog; Technology Family: LVC; Voltage(Nom)(V): 1.8,2.5,3.3,5; Schmitt Trigger: Yes; Output Drive (IOL/IOH)(Max)(mA): 32/-32; tpd @ Nom Voltage(Max)(ns): 9.5,5.7,5.4,4.3; Logic: Inverting; Sub-Family: Inverting Buffer/Driver; 3-State Output: No; DatasheetVersion: SCES200M; PackageReference: DCK0006A; Supplier 1: Mouser; Supplier Part Number 1: 595-SN74LVC2G14DCKR; Supplier 2: Digi-Key; Supplier Part Number 2: 296-13011-2-ND; Supplier 3: Digi-Key; Supplier Part Number 3: 296-13011-1-ND; Supplier 4: Digi-Key; Supplier Part Number 4: 296-13011-6-ND; Operating Temperature Range(C): -40 to 125; ComponentLink1Description: Manufacturer URL; ComponentLink1URL: http://www.ti.com/; ComponentLink2Description: Datasheet; ComponentLink2URL: http://www.ti.com/lit/ds/symlink/sn74lvc2g14.pdf
footprint DCK0006A_N (SOT23, 6-Leads, Body 2.15x1.4mm, Pitch 0.65mm, IPC Medium Density)
footprint DCK0006A_M (SOT23, 6-Leads, Body 2.15x1.4mm, Pitch 0.65mm, IPC Low Density)
footprint DCK0006A_L (SOT23, 6-Leads, Body 2.15x1.4mm, Pitch 0.65mm, IPC High Density)
part A pins: 1 1A (in), 6 1Y (out)
part B pins: 3 2A (in), 4 2Y (out)
part C pins: 2 GND (power), 5 VCC (power)

## SN74LVC2G14DCKT
designator U?
Dual Schmitt-Trigger Inverter, DCK0006A, SMALL T&R; Generic Part Number: SN74LVC2G14; Manufacturer: Texas Instruments; PartNumber: SN74LVC2G14DCKT; VCC(Min)(V): 1.65; VCC(Max)(V): 5.5; Output Type: CMOS; ICC @ Nom Voltage(Max)(mA): 0.01; Input Type: CMOS/TTL; Bits(#): 2; F @ Nom Voltage(Max)(Mhz): 150; Rating: Catalog; Technology Family: LVC; Voltage(Nom)(V): 1.8,2.5,3.3,5; Schmitt Trigger: Yes; Output Drive (IOL/IOH)(Max)(mA): 32/-32; tpd @ Nom Voltage(Max)(ns): 9.5,5.7,5.4,4.3; Logic: Inverting; Sub-Family: Inverting Buffer/Driver; 3-State Output: No; DatasheetVersion: SCES200M; PackageReference: DCK0006A; Supplier 1: Mouser; Supplier Part Number 1: 595-SN74LVC2G14DCKT; Supplier 2: Digi-Key; Supplier Part Number 2: 296-26619-2-ND; Supplier 3: Digi-Key; Supplier Part Number 3: 296-26619-1-ND; Supplier 4: Digi-Key; Supplier Part Number 4: 296-26619-6-ND; Operating Temperature Range(C): -40 to 125; ComponentLink1Description: Manufacturer URL; ComponentLink1URL: http://www.ti.com/; ComponentLink2Description: Datasheet; ComponentLink2URL: http://www.ti.com/lit/ds/symlink/sn74lvc2g14.pdf
footprint DCK0006A_N (SOT23, 6-Leads, Body 2.15x1.4mm, Pitch 0.65mm, IPC Medium Density)
footprint DCK0006A_M (SOT23, 6-Leads, Body 2.15x1.4mm, Pitch 0.65mm, IPC Low Density)
footprint DCK0006A_L (SOT23, 6-Leads, Body 2.15x1.4mm, Pitch 0.65mm, IPC High Density)
part A pins: 1 1A (in), 6 1Y (out)
part B pins: 3 2A (in), 4 2Y (out)
part C pins: 2 GND (power), 5 VCC (power)

## SN74LVC2G14IDCKRQ1
designator U?
Automotive Catalog Dual Schmitt-Trigger Inverter, DCK0006A, LARGE T&R; Generic Part Number: SN74LVC2G14-Q1; Manufacturer: Texas Instruments; PartNumber: SN74LVC2G14IDCKRQ1; VCC(Min)(V): 1.65; VCC(Max)(V): 5.5; Output Type: CMOS; ICC @ Nom Voltage(Max)(mA): 0.01; Input Type: CMOS/TTL; Bits(#): 2; F @ Nom Voltage(Max)(Mhz): 150; Technology Family: LVC; Voltage(Nom)(V): 1.8,2.5,3.3,5; Schmitt Trigger: Yes; Output Drive (IOL/IOH)(Max)(mA): 32/-32; tpd @ Nom Voltage(Max)(ns): 9.5,5.7,5.4,4.3; Logic: Inverting; Sub-Family: Inverting Buffer/Driver; 3-State Output: No; DatasheetVersion: SCES558D; PackageReference: DCK0006A; Supplier 1: Mouser; Supplier Part Number 1: 595-SN74LVC2G14IDCQ1; Supplier 2: Digi-Key; Supplier Part Number 2: 296-26620-2-ND; Supplier 3: Digi-Key; Supplier Part Number 3: 296-26620-1-ND; Supplier 4: Digi-Key; Supplier Part Number 4: 296-26620-6-ND; Operating Temperature Range(C): -40 to 85; Rating: Automotive; ComponentLink1Description: Manufacturer URL; ComponentLink1URL: http://www.ti.com/; ComponentLink2Description: Datasheet; ComponentLink2URL: http://www.ti.com/lit/ds/symlink/sn74lvc2g14-q1.pdf
footprint DCK0006A_N (SOT23, 6-Leads, Body 2.15x1.4mm, Pitch 0.65mm, IPC Medium Density)
footprint DCK0006A_M (SOT23, 6-Leads, Body 2.15x1.4mm, Pitch 0.65mm, IPC Low Density)
footprint DCK0006A_L (SOT23, 6-Leads, Body 2.15x1.4mm, Pitch 0.65mm, IPC High Density)
part A pins: 1 1A (in), 6 1Y (out)
part B pins: 3 2A (in), 4 2Y (out)
part C pins: 2 GND (power), 5 VCC (power)

## SN74LVC2G14YZPR
designator U?
Dual Schmitt-Trigger Inverter, YZP0006ADAD, LARGE T&R; Generic Part Number: SN74LVC2G14; Manufacturer: Texas Instruments; PartNumber: SN74LVC2G14YZPR; VCC(Min)(V): 1.65; VCC(Max)(V): 5.5; Output Type: CMOS; ICC @ Nom Voltage(Max)(mA): 0.01; Input Type: CMOS/TTL; Bits(#): 2; F @ Nom Voltage(Max)(Mhz): 150; Rating: Catalog; Technology Family: LVC; Voltage(Nom)(V): 1.8,2.5,3.3,5; Schmitt Trigger: Yes; Output Drive (IOL/IOH)(Max)(mA): 32/-32; tpd @ Nom Voltage(Max)(ns): 9.5,5.7,5.4,4.3; Logic: Inverting; Sub-Family: Inverting Buffer/Driver; 3-State Output: No; DatasheetVersion: SCES200M; PackageReference: YZP0006ADAD; Supplier 1: Mouser; Supplier Part Number 1: 595-SN74LVC2G14YZPR; Supplier 2: Digi-Key; Supplier Part Number 2: 296-18803-2-ND; Supplier 3: Digi-Key; Supplier Part Number 3: 296-18803-1-ND; Supplier 4: Digi-Key; Supplier Part Number 4: 296-18803-6-ND; Operating Temperature Range(C): -40 to 125; ComponentLink1Description: Manufacturer URL; ComponentLink1URL: http://www.ti.com/; ComponentLink2Description: Datasheet; ComponentLink2URL: http://www.ti.com/lit/ds/symlink/sn74lvc2g14.pdf
footprint YZP0006ADAD (BGA, 6-Balls, Body 1.39x0.89mm, Pitch 0.5mm)
part A pins: A1 1A (in), A2 1Y (out)
part B pins: C1 2A (in), C2 2Y (out)
part C pins: B1 GND (power), B2 VCC (power)

## SN74LVC2G17DBVR
designator U?
Dual Schmitt-Trigger Buffer, DBV0006A, LARGE T&R; Generic Part Number: SN74LVC2G17; Manufacturer: Texas Instruments; PartNumber: SN74LVC2G17DBVR; VCC(Min)(V): 1.65; VCC(Max)(V): 5.5; Output Type: CMOS; ICC @ Nom Voltage(Max)(mA): 0.01; Input Type: CMOS/TTL; Bits(#): 2; F @ Nom Voltage(Max)(Mhz): 150; Rating: Catalog; Technology Family: LVC; Voltage(Nom)(V): 1.8,2.5,3.3,5; Schmitt Trigger: Yes; Output Drive (IOL/IOH)(Max)(mA): 32/-32; tpd @ Nom Voltage(Max)(ns): 9.3,5.7,5.4,4.3; Logic: True; Sub-Family: Non-Inverting Buffer/Driver; 3-State Output: No; DatasheetVersion: SCES381N; PackageReference: DBV0006A; Supplier 1: Mouser; Supplier Part Number 1: 595-SN74LVC2G17DBVR; Supplier 2: Digi-Key; Supplier Part Number 2: 296-13012-2-ND; Supplier 3: Digi-Key; Supplier Part Number 3: 296-13012-1-ND; Supplier 4: Digi-Key; Supplier Part Number 4: 296-13012-6-ND; Operating Temperature Range(C): -40 to 125,-40 to 85; ComponentLink1Description: Manufacturer URL; ComponentLink1URL: http://www.ti.com/; ComponentLink2Description: Datasheet; ComponentLink2URL: http://www.ti.com/lit/ds/symlink/sn74lvc2g17.pdf
footprint DBV0006A_N (SOT23, 6-Leads, Body 3.05x1.75mm, Pitch 0.95mm, IPC Medium Density)
footprint DBV0006A_M (SOT23, 6-Leads, Body 3.05x1.75mm, Pitch 0.95mm, IPC Low Density)
footprint DBV0006A_L (SOT23, 6-Leads, Body 3.05x1.75mm, Pitch 0.95mm, IPC High Density)
part A pins: 1 1A (in), 6 1Y (out)
part B pins: 3 2A (in), 4 2Y (out)
part C pins: 2 GND (power), 5 VCC (power)

## SN74LVC2G17DBVT
designator U?
Dual Schmitt-Trigger Buffer, DBV0006A, SMALL T&R; Generic Part Number: SN74LVC2G17; Manufacturer: Texas Instruments; PartNumber: SN74LVC2G17DBVT; VCC(Min)(V): 1.65; VCC(Max)(V): 5.5; Output Type: CMOS; ICC @ Nom Voltage(Max)(mA): 0.01; Input Type: CMOS/TTL; Bits(#): 2; F @ Nom Voltage(Max)(Mhz): 150; Rating: Catalog; Technology Family: LVC; Voltage(Nom)(V): 1.8,2.5,3.3,5; Schmitt Trigger: Yes; Output Drive (IOL/IOH)(Max)(mA): 32/-32; tpd @ Nom Voltage(Max)(ns): 9.3,5.7,5.4,4.3; Logic: True; Sub-Family: Non-Inverting Buffer/Driver; 3-State Output: No; DatasheetVersion: SCES381N; PackageReference: DBV0006A; Supplier 1: Mouser; Supplier Part Number 1: 595-SN74LVC2G17DBVT; Supplier 2: Digi-Key; Supplier Part Number 2: 296-26621-2-ND; Supplier 3: Digi-Key; Supplier Part Number 3: 296-26621-1-ND; Supplier 4: Digi-Key; Supplier Part Number 4: 296-26621-6-ND; Operating Temperature Range(C): -40 to 125,-40 to 85; ComponentLink1Description: Manufacturer URL; ComponentLink1URL: http://www.ti.com/; ComponentLink2Description: Datasheet; ComponentLink2URL: http://www.ti.com/lit/ds/symlink/sn74lvc2g17.pdf
footprint DBV0006A_N (SOT23, 6-Leads, Body 3.05x1.75mm, Pitch 0.95mm, IPC Medium Density)
footprint DBV0006A_M (SOT23, 6-Leads, Body 3.05x1.75mm, Pitch 0.95mm, IPC Low Density)
footprint DBV0006A_L (SOT23, 6-Leads, Body 3.05x1.75mm, Pitch 0.95mm, IPC High Density)
part A pins: 1 1A (in), 6 1Y (out)
part B pins: 3 2A (in), 4 2Y (out)
part C pins: 2 GND (power), 5 VCC (power)

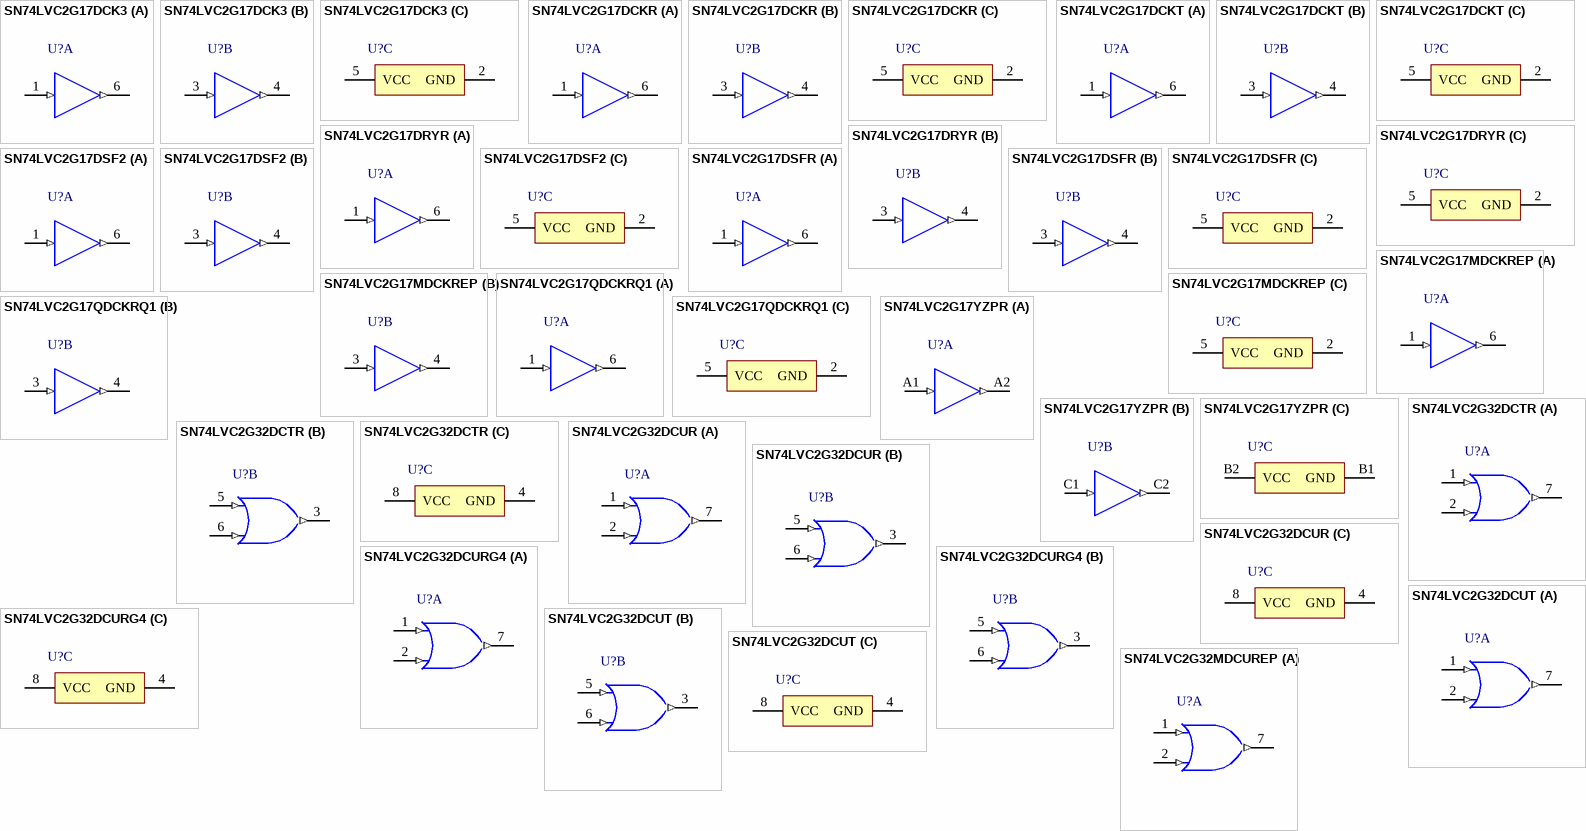
[diagram p51: symbols SN74LVC2G17DCK3 to SN74LVC2G32MDCUREP]

## SN74LVC2G17DCK3
designator U?
Dual Schmitt-Trigger Buffer, DCK0006A, LARGE T&R; Generic Part Number: SN74LVC2G17; Manufacturer: Texas Instruments; PartNumber: SN74LVC2G17DCK3; VCC(Min)(V): 1.65; VCC(Max)(V): 5.5; Output Type: CMOS; ICC @ Nom Voltage(Max)(mA): 0.01; Input Type: CMOS/TTL; Bits(#): 2; F @ Nom Voltage(Max)(Mhz): 150; Rating: Catalog; Technology Family: LVC; Voltage(Nom)(V): 1.8,2.5,3.3,5; Schmitt Trigger: Yes; Output Drive (IOL/IOH)(Max)(mA): 32/-32; tpd @ Nom Voltage(Max)(ns): 9.3,5.7,5.4,4.3; Logic: True; Sub-Family: Non-Inverting Buffer/Driver; 3-State Output: No; DatasheetVersion: SCES381N; PackageReference: DCK0006A; Supplier 1: Mouser; Supplier Part Number 1: 595-SN74LVC2G17DCK3; Supplier 2: Digi-Key; Supplier Part Number 2: SN74LVC2G17DCK3-ND; Operating Temperature Range(C): -40 to 125,-40 to 85; ComponentLink1Description: Manufacturer URL; ComponentLink1URL: http://www.ti.com/; ComponentLink2Description: Datasheet; ComponentLink2URL: http://www.ti.com/lit/ds/symlink/sn74lvc2g17.pdf
footprint DCK0006A_N (SOT23, 6-Leads, Body 2.15x1.4mm, Pitch 0.65mm, IPC Medium Density)
footprint DCK0006A_M (SOT23, 6-Leads, Body 2.15x1.4mm, Pitch 0.65mm, IPC Low Density)
footprint DCK0006A_L (SOT23, 6-Leads, Body 2.15x1.4mm, Pitch 0.65mm, IPC High Density)
part A pins: 1 1A (in), 6 1Y (out)
part B pins: 3 2A (in), 4 2Y (out)
part C pins: 2 GND (power), 5 VCC (power)

## SN74LVC2G17DCKR
designator U?
Dual Schmitt-Trigger Buffer, DCK0006A, LARGE T&R; Generic Part Number: SN74LVC2G17; Manufacturer: Texas Instruments; PartNumber: SN74LVC2G17DCKR; VCC(Min)(V): 1.65; VCC(Max)(V): 5.5; Output Type: CMOS; ICC @ Nom Voltage(Max)(mA): 0.01; Input Type: CMOS/TTL; Bits(#): 2; F @ Nom Voltage(Max)(Mhz): 150; Rating: Catalog; Technology Family: LVC; Voltage(Nom)(V): 1.8,2.5,3.3,5; Schmitt Trigger: Yes; Output Drive (IOL/IOH)(Max)(mA): 32/-32; tpd @ Nom Voltage(Max)(ns): 9.3,5.7,5.4,4.3; Logic: True; Sub-Family: Non-Inverting Buffer/Driver; 3-State Output: No; DatasheetVersion: SCES381N; PackageReference: DCK0006A; Supplier 1: Mouser; Supplier Part Number 1: 595-SN74LVC2G17DCKR; Supplier 2: Digi-Key; Supplier Part Number 2: 296-13013-2-ND; Supplier 3: Digi-Key; Supplier Part Number 3: 296-13013-1-ND; Supplier 4: Digi-Key; Supplier Part Number 4: 296-13013-6-ND; Operating Temperature Range(C): -40 to 125,-40 to 85; ComponentLink1Description: Manufacturer URL; ComponentLink1URL: http://www.ti.com/; ComponentLink2Description: Datasheet; ComponentLink2URL: http://www.ti.com/lit/ds/symlink/sn74lvc2g17.pdf
footprint DCK0006A_N (SOT23, 6-Leads, Body 2.15x1.4mm, Pitch 0.65mm, IPC Medium Density)
footprint DCK0006A_M (SOT23, 6-Leads, Body 2.15x1.4mm, Pitch 0.65mm, IPC Low Density)
footprint DCK0006A_L (SOT23, 6-Leads, Body 2.15x1.4mm, Pitch 0.65mm, IPC High Density)
part A pins: 1 1A (in), 6 1Y (out)
part B pins: 3 2A (in), 4 2Y (out)
part C pins: 2 GND (power), 5 VCC (power)

## SN74LVC2G17DCKT
designator U?
Dual Schmitt-Trigger Buffer, DCK0006A, SMALL T&R; Generic Part Number: SN74LVC2G17; Manufacturer: Texas Instruments; PartNumber: SN74LVC2G17DCKT; VCC(Min)(V): 1.65; VCC(Max)(V): 5.5; Output Type: CMOS; ICC @ Nom Voltage(Max)(mA): 0.01; Input Type: CMOS/TTL; Bits(#): 2; F @ Nom Voltage(Max)(Mhz): 150; Rating: Catalog; Technology Family: LVC; Voltage(Nom)(V): 1.8,2.5,3.3,5; Schmitt Trigger: Yes; Output Drive (IOL/IOH)(Max)(mA): 32/-32; tpd @ Nom Voltage(Max)(ns): 9.3,5.7,5.4,4.3; Logic: True; Sub-Family: Non-Inverting Buffer/Driver; 3-State Output: No; DatasheetVersion: SCES381N; PackageReference: DCK0006A; Supplier 1: Mouser; Supplier Part Number 1: 595-SN74LVC2G17DCKT; Supplier 2: Digi-Key; Supplier Part Number 2: 296-26622-2-ND; Supplier 3: Digi-Key; Supplier Part Number 3: 296-26622-1-ND; Supplier 4: Digi-Key; Supplier Part Number 4: 296-26622-6-ND; Operating Temperature Range(C): -40 to 125,-40 to 85; ComponentLink1Description: Manufacturer URL; ComponentLink1URL: http://www.ti.com/; ComponentLink2Description: Datasheet; ComponentLink2URL: http://www.ti.com/lit/ds/symlink/sn74lvc2g17.pdf
footprint DCK0006A_N (SOT23, 6-Leads, Body 2.15x1.4mm, Pitch 0.65mm, IPC Medium Density)
footprint DCK0006A_M (SOT23, 6-Leads, Body 2.15x1.4mm, Pitch 0.65mm, IPC Low Density)
footprint DCK0006A_L (SOT23, 6-Leads, Body 2.15x1.4mm, Pitch 0.65mm, IPC High Density)
part A pins: 1 1A (in), 6 1Y (out)
part B pins: 3 2A (in), 4 2Y (out)
part C pins: 2 GND (power), 5 VCC (power)

## SN74LVC2G17DRYR
designator U?
Dual Schmitt-Trigger Buffer, DRY0006A, LARGE T&R; Generic Part Number: SN74LVC2G17; Manufacturer: Texas Instruments; PartNumber: SN74LVC2G17DRYR; VCC(Min)(V): 1.65; VCC(Max)(V): 5.5; Output Type: CMOS; ICC @ Nom Voltage(Max)(mA): 0.01; Input Type: CMOS/TTL; Bits(#): 2; F @ Nom Voltage(Max)(Mhz): 150; Rating: Catalog; Technology Family: LVC; Voltage(Nom)(V): 1.8,2.5,3.3,5; Schmitt Trigger: Yes; Output Drive (IOL/IOH)(Max)(mA): 32/-32; tpd @ Nom Voltage(Max)(ns): 9.3,5.7,5.4,4.3; Logic: True; Sub-Family: Non-Inverting Buffer/Driver; 3-State Output: No; DatasheetVersion: SCES381N; PackageReference: DRY0006A; Supplier 1: Mouser; Supplier Part Number 1: 595-SN74LVC2G17DRYR; Supplier 2: Digi-Key; Supplier Part Number 2: 296-34875-2-ND; Supplier 3: Digi-Key; Supplier Part Number 3: 296-34875-1-ND; Supplier 4: Digi-Key; Supplier Part Number 4: 296-34875-6-ND; Operating Temperature Range(C): -40 to 125,-40 to 85; ComponentLink1Description: Manufacturer URL; ComponentLink1URL: http://www.ti.com/; ComponentLink2Description: Datasheet; ComponentLink2URL: http://www.ti.com/lit/ds/symlink/sn74lvc2g17.pdf
footprint DRY0006A_V (SON, 6-Leads, Body 1.45x1mm, Pitch 0.5mm)
part A pins: 1 1A (in), 6 1Y (out)
part B pins: 3 2A (in), 4 2Y (out)
part C pins: 2 GND (power), 5 VCC (power)

## SN74LVC2G17DSF2
designator U?
Dual Schmitt-Trigger Buffer, DSF0006A, LARGE T&R; Generic Part Number: SN74LVC2G17; Manufacturer: Texas Instruments; PartNumber: SN74LVC2G17DSF2; VCC(Min)(V): 1.65; VCC(Max)(V): 5.5; Output Type: CMOS; ICC @ Nom Voltage(Max)(mA): 0.01; Input Type: CMOS/TTL; Bits(#): 2; F @ Nom Voltage(Max)(Mhz): 150; Rating: Catalog; Technology Family: LVC; Voltage(Nom)(V): 1.8,2.5,3.3,5; Schmitt Trigger: Yes; Output Drive (IOL/IOH)(Max)(mA): 32/-32; tpd @ Nom Voltage(Max)(ns): 9.3,5.7,5.4,4.3; Logic: True; Sub-Family: Non-Inverting Buffer/Driver; 3-State Output: No; DatasheetVersion: SCES381N; PackageReference: DSF0006A; Supplier 1: Mouser; Supplier Part Number 1: 595-SN74LVC2G17DSF2; Supplier 2: Digi-Key; Supplier Part Number 2: SN74LVC2G17DSF2-ND; Operating Temperature Range(C): -40 to 125,-40 to 85; ComponentLink1Description: Manufacturer URL; ComponentLink1URL: http://www.ti.com/; ComponentLink2Description: Datasheet; ComponentLink2URL: http://www.ti.com/lit/ds/symlink/sn74lvc2g17.pdf
footprint DSF0006A_V (SON, 6-Leads, Body 1x1mm, Pitch 0.35mm, TI Recommend)
part A pins: 1 1A (in), 6 1Y (out)
part B pins: 3 2A (in), 4 2Y (out)
part C pins: 2 GND (power), 5 VCC (power)

## SN74LVC2G17DSFR
designator U?
Dual Schmitt-Trigger Buffer, DSF0006A, LARGE T&R; Generic Part Number: SN74LVC2G17; Manufacturer: Texas Instruments; PartNumber: SN74LVC2G17DSFR; VCC(Min)(V): 1.65; VCC(Max)(V): 5.5; Output Type: CMOS; ICC @ Nom Voltage(Max)(mA): 0.01; Input Type: CMOS/TTL; Bits(#): 2; F @ Nom Voltage(Max)(Mhz): 150; Rating: Catalog; Technology Family: LVC; Voltage(Nom)(V): 1.8,2.5,3.3,5; Schmitt Trigger: Yes; Output Drive (IOL/IOH)(Max)(mA): 32/-32; tpd @ Nom Voltage(Max)(ns): 9.3,5.7,5.4,4.3; Logic: True; Sub-Family: Non-Inverting Buffer/Driver; 3-State Output: No; DatasheetVersion: SCES381N; PackageReference: DSF0006A; Supplier 1: Mouser; Supplier Part Number 1: 595-SN74LVC2G17DSFR; Supplier 2: Digi-Key; Supplier Part Number 2: 296-34876-2-ND; Supplier 3: Digi-Key; Supplier Part Number 3: 296-34876-1-ND; Supplier 4: Digi-Key; Supplier Part Number 4: 296-34876-6-ND; Operating Temperature Range(C): -40 to 125,-40 to 85; ComponentLink1Description: Manufacturer URL; ComponentLink1URL: http://www.ti.com/; ComponentLink2Description: Datasheet; ComponentLink2URL: http://www.ti.com/lit/ds/symlink/sn74lvc2g17.pdf
footprint DSF0006A_V (SON, 6-Leads, Body 1x1mm, Pitch 0.35mm, TI Recommend)
part A pins: 1 1A (in), 6 1Y (out)
part B pins: 3 2A (in), 4 2Y (out)
part C pins: 2 GND (power), 5 VCC (power)

## SN74LVC2G17MDCKREP
designator U?
Enhanced Product Dual Schmitt-Trigger Buffer, DCK0006A, LARGE T&R; Generic Part Number: SN74LVC2G17-EP; Manufacturer: Texas Instruments; PartNumber: SN74LVC2G17MDCKREP; VCC(Min)(V): 1.65; VCC(Max)(V): 5.5; Output Type: CMOS; ICC @ Nom Voltage(Max)(mA): 0.01; Input Type: CMOS/TTL; Bits(#): 2; F @ Nom Voltage(Max)(Mhz): 150; Rating: HiRel Enhanced Product; Technology Family: LVC; Voltage(Nom)(V): 1.8,2.5,3.3,5; Schmitt Trigger: Yes; Output Drive (IOL/IOH)(Max)(mA): 32/-32; tpd @ Nom Voltage(Max)(ns): 13,8.7,7.4,6.3; Logic: True; Sub-Family: Non-Inverting Buffer/Driver; 3-State Output: No; DatasheetVersion: SCES683; PackageReference: DCK0006A; Supplier 1: Mouser; Supplier Part Number 1: 595-SN74L2G17MDCKREP; Supplier 2: Digi-Key; Supplier Part Number 2: 296-22358-2-ND; Supplier 3: Digi-Key; Supplier Part Number 3: 296-22358-1-ND; Supplier 4: Digi-Key; Supplier Part Number 4: 296-22358-6-ND; Operating Temperature Range(C): -55 to 125; ComponentLink1Description: Manufacturer URL; ComponentLink1URL: http://www.ti.com/; ComponentLink2Description: Datasheet; ComponentLink2URL: http://www.ti.com/lit/ds/symlink/sn74lvc2g17-ep.pdf
footprint DCK0006A_N (SOT23, 6-Leads, Body 2.15x1.4mm, Pitch 0.65mm, IPC Medium Density)
footprint DCK0006A_M (SOT23, 6-Leads, Body 2.15x1.4mm, Pitch 0.65mm, IPC Low Density)
footprint DCK0006A_L (SOT23, 6-Leads, Body 2.15x1.4mm, Pitch 0.65mm, IPC High Density)
part A pins: 1 1A (in), 6 1Y (out)
part B pins: 3 2A (in), 4 2Y (out)
part C pins: 2 GND (power), 5 VCC (power)

## SN74LVC2G17QDCKRQ1
designator U?
Automotive Catalog Dual Schmitt-Trigger Buffer, DCK0006A, LARGE T&R; Generic Part Number: SN74LVC2G17-Q1; Manufacturer: Texas Instruments; PartNumber: SN74LVC2G17QDCKRQ1; VCC(Min)(V): 1.65; VCC(Max)(V): 5.5; Output Type: CMOS; ICC @ Nom Voltage(Max)(mA): 0.01; Input Type: CMOS/TTL; Bits(#): 2; F @ Nom Voltage(Max)(Mhz): 150; Technology Family: LVC; Voltage(Nom)(V): 1.8,2.5,3.3,5; Schmitt Trigger: Yes; Output Drive (IOL/IOH)(Max)(mA): 32/-32; tpd @ Nom Voltage(Max)(ns): 9.3,5.7,5.4,4.3; Logic: True; Sub-Family: Non-Inverting Buffer/Driver; 3-State Output: No; DatasheetVersion: SCES618B; PackageReference: DCK0006A; Supplier 1: Mouser; Supplier Part Number 1: 595-SN74LVC2G17QDCQ1; Supplier 2: Digi-Key; Supplier Part Number 2: 296-18297-2-ND; Supplier 3: Digi-Key; Supplier Part Number 3: 296-18297-1-ND; Supplier 4: Digi-Key; Supplier Part Number 4: 296-18297-6-ND; Operating Temperature Range(C): -40 to 125; Rating: Automotive; ComponentLink1Description: Manufacturer URL; ComponentLink1URL: http://www.ti.com/; ComponentLink2Description: Datasheet; ComponentLink2URL: http://www.ti.com/lit/ds/symlink/sn74lvc2g17-q1.pdf
footprint DCK0006A_N (SOT23, 6-Leads, Body 2.15x1.4mm, Pitch 0.65mm, IPC Medium Density)
footprint DCK0006A_M (SOT23, 6-Leads, Body 2.15x1.4mm, Pitch 0.65mm, IPC Low Density)
footprint DCK0006A_L (SOT23, 6-Leads, Body 2.15x1.4mm, Pitch 0.65mm, IPC High Density)
part A pins: 1 1A (in), 6 1Y (out)
part B pins: 3 2A (in), 4 2Y (out)
part C pins: 2 GND (power), 5 VCC (power)

## SN74LVC2G17YZPR
designator U?
Dual Schmitt-Trigger Buffer, YZP0006ADAD, LARGE T&R; Generic Part Number: SN74LVC2G17; Manufacturer: Texas Instruments; PartNumber: SN74LVC2G17YZPR; VCC(Min)(V): 1.65; VCC(Max)(V): 5.5; Output Type: CMOS; ICC @ Nom Voltage(Max)(mA): 0.01; Input Type: CMOS/TTL; Bits(#): 2; F @ Nom Voltage(Max)(Mhz): 150; Rating: Catalog; Technology Family: LVC; Voltage(Nom)(V): 1.8,2.5,3.3,5; Schmitt Trigger: Yes; Output Drive (IOL/IOH)(Max)(mA): 32/-32; tpd @ Nom Voltage(Max)(ns): 9.3,5.7,5.4,4.3; Logic: True; Sub-Family: Non-Inverting Buffer/Driver; 3-State Output: No; DatasheetVersion: SCES381N; PackageReference: YZP0006ADAD; Supplier 1: Mouser; Supplier Part Number 1: 595-SN74LVC2G17YZPR; Supplier 2: Digi-Key; Supplier Part Number 2: 296-18261-2-ND; Supplier 3: Digi-Key; Supplier Part Number 3: 296-18261-1-ND; Supplier 4: Digi-Key; Supplier Part Number 4: 296-18261-6-ND; Operating Temperature Range(C): -40 to 125,-40 to 85; ComponentLink1Description: Manufacturer URL; ComponentLink1URL: http://www.ti.com/; ComponentLink2Description: Datasheet; ComponentLink2URL: http://www.ti.com/lit/ds/symlink/sn74lvc2g17.pdf
footprint YZP0006ADAD (BGA, 6-Balls, Body 1.39x0.89mm, Pitch 0.5mm)
part A pins: A1 1A (in), A2 1Y (out)
part B pins: C1 2A (in), C2 2Y (out)
part C pins: B1 GND (power), B2 VCC (power)

## SN74LVC2G32DCTR
designator U?
Dual 2-Input Positive-OR Gate, DCT0008A, LARGE T&R; Generic Part Number: SN74LVC2G32; Manufacturer: Texas Instruments; PartNumber: SN74LVC2G32DCTR; VCC(Min)(V): 1.65; VCC(Max)(V): 5.5; Output Type: CMOS; ICC @ Nom Voltage(Max)(mA): 0.01; Input Type: CMOS/TTL; Bits(#): 2; F @ Nom Voltage(Max)(Mhz): 150; Rating: Catalog; Technology Family: LVC; Voltage(Nom)(V): 1.8,2.5,3.3,5; Schmitt Trigger: No; Output Drive (IOL/IOH)(Max)(mA): 32/-32; tpd @ Nom Voltage(Max)(ns): 8,4.4,3.8,3.2; Logic: True; Gate Type: OR; Sub-Family: OR Gate; DatasheetVersion: SCES201M; PackageReference: DCT0008A; Supplier 1: Mouser; Supplier Part Number 1: 595-SN74LVC2G32DCTR; Supplier 2: Digi-Key; Supplier Part Number 2: 296-13267-2-ND; Supplier 3: Digi-Key; Supplier Part Number 3: 296-13267-1-ND; Supplier 4: Digi-Key; Supplier Part Number 4: 296-13267-6-ND; Operating Temperature Range(C): -40 to 125,-40 to 85; 3-State Output: No; ComponentLink1Description: Manufacturer URL; ComponentLink1URL: http://www.ti.com/; ComponentLink2Description: Datasheet; ComponentLink2URL: http://www.ti.com/lit/ds/symlink/sn74lvc2g32.pdf
footprint DCT0008A_N (SOP, 8-Leads, Body 2.9x3.2mm, Pitch 0.65mm, IPC Medium Density)
footprint DCT0008A_M (SOP, 8-Leads, Body 2.9x3.2mm, Pitch 0.65mm, IPC Low Density)
footprint DCT0008A_L (SOP, 8-Leads, Body 2.9x3.2mm, Pitch 0.65mm, IPC High Density)
part A pins: 1 1A (in), 2 1B (in), 7 1Y (out)
part B pins: 3 2Y (out), 5 2A (in), 6 2B (in)
part C pins: 4 GND (power), 8 VCC (power)

## SN74LVC2G32DCUR
designator U?
Dual 2-Input Positive-OR Gate, DCU0008A, LARGE T&R; Generic Part Number: SN74LVC2G32; Manufacturer: Texas Instruments; PartNumber: SN74LVC2G32DCUR; VCC(Min)(V): 1.65; VCC(Max)(V): 5.5; Output Type: CMOS; ICC @ Nom Voltage(Max)(mA): 0.01; Input Type: CMOS/TTL; Bits(#): 2; F @ Nom Voltage(Max)(Mhz): 150; Rating: Catalog; Technology Family: LVC; Voltage(Nom)(V): 1.8,2.5,3.3,5; Schmitt Trigger: No; Output Drive (IOL/IOH)(Max)(mA): 32/-32; tpd @ Nom Voltage(Max)(ns): 8,4.4,3.8,3.2; Logic: True; Gate Type: OR; Sub-Family: OR Gate; DatasheetVersion: SCES201M; PackageReference: DCU0008A; Supplier 1: Mouser; Supplier Part Number 1: 595-SN74LVC2G32DCUR; Supplier 2: Digi-Key; Supplier Part Number 2: 296-13268-2-ND; Supplier 3: Digi-Key; Supplier Part Number 3: 296-13268-1-ND; Supplier 4: Digi-Key; Supplier Part Number 4: 296-13268-6-ND; Operating Temperature Range(C): -40 to 125,-40 to 85; 3-State Output: No; ComponentLink1Description: Manufacturer URL; ComponentLink1URL: http://www.ti.com/; ComponentLink2Description: Datasheet; ComponentLink2URL: http://www.ti.com/lit/ds/symlink/sn74lvc2g32.pdf
footprint DCU0008A_N (SOP, 8-Leads, Body 2.4x2.1mm, Pitch 0.5mm, IPC Medium Density)
footprint DCU0008A_M (SOP, 8-Leads, Body 2.4x2.1mm, Pitch 0.5mm, IPC Low Density)
footprint DCU0008A_L (SOP, 8-Leads, Body 2.4x2.1mm, Pitch 0.5mm, IPC High Density)
part A pins: 1 1A (in), 2 1B (in), 7 1Y (out)
part B pins: 3 2Y (out), 5 2A (in), 6 2B (in)
part C pins: 4 GND (power), 8 VCC (power)